# Altium footprint library SSW-105-01-G-D-LL.PcbLib: 1 footprints
Each footprint in its own frame and in the unit in brackets; x right, y up, seen from the top. Pads: shape width x height; smd on the part's side, far side on the other; paste and mask are expansions set on the pad; w line width, h text height; cw(c..) or ccw(c..) is an arc to the next point about the centre after c.
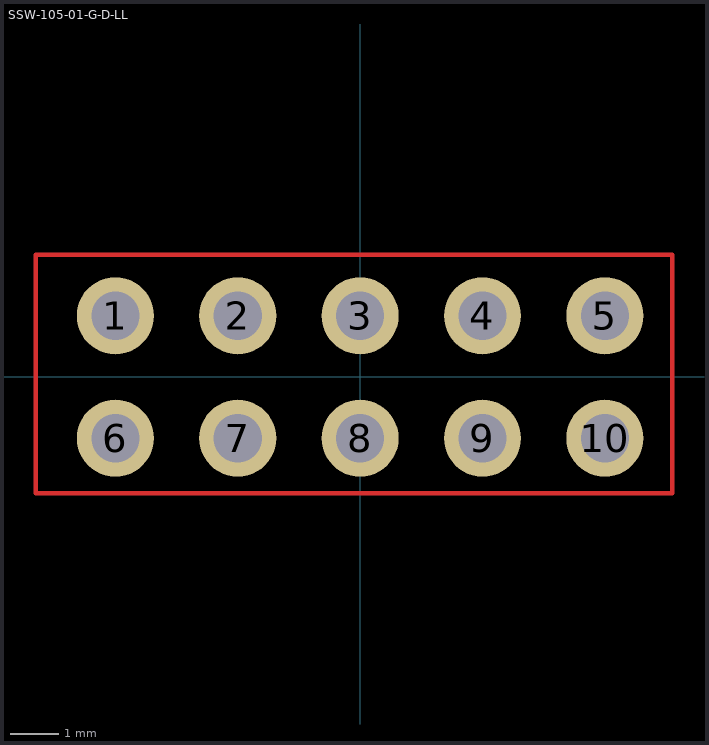
[diagram p0: the footprint, top view; thin cyan lines are the x and y axes]

## SSW-105-01-G-D-LL [mm] "SSW-105-01-G-D-LL, 10-pin"
height 8.51
pads (10):
  round 1.6 hole 1: 1(-5.08,1.27) 2(-2.54,1.27) 3(0,1.27) 4(2.54,1.27) 5(5.08,1.27) 6(-5.08,-1.27) 7(-2.54,-1.27) 8(0,-1.27) 9(2.54,-1.27) 10(5.08,-1.27)
Top Layer:
  lines w0.1: -6.731,-2.413 6.477,-2.413 6.477,2.537 -6.731,2.537 -6.731,-2.413